# EAGLE library part DPDT (library switches)
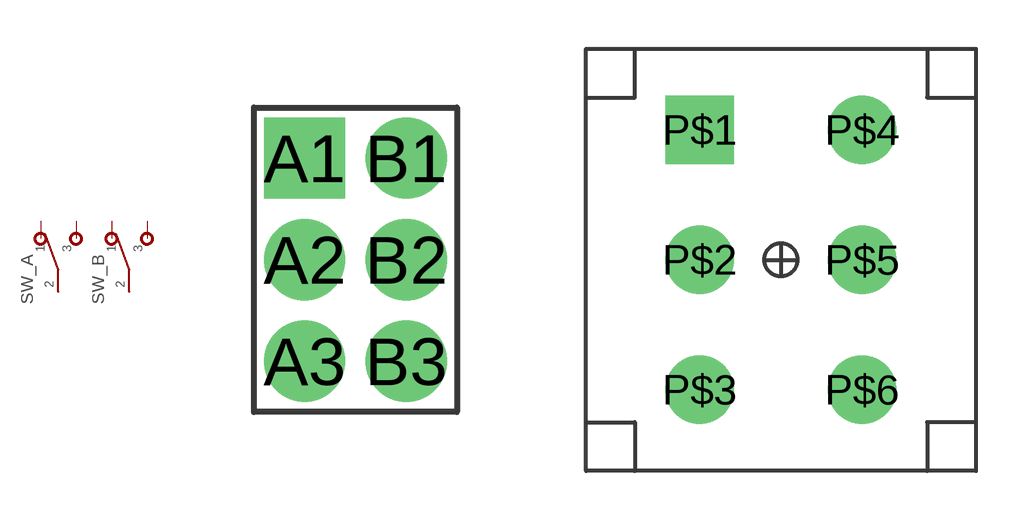
[diagram p8: symbol with the pads of DPDT; footprints DPDT, SF12011F-0202-20R-M-011]

Designator prefix SW; gates _A=SPDT _B=SPDT

## DPDT  [DPDT]
A1  _A:1  pas
A2  _A:2  pas
A3  _A:3  pas
B1  _B:1  pas
B2  _B:2  pas
B3  _B:3  pas

## DPDTDPDT_MOM  [SF12011F-0202-20R-M-011]
P$1  _A:1  pas
P$2  _A:2  pas
P$3  _A:3  pas
P$4  _B:1  pas
P$5  _B:2  pas
P$6  _B:3  pas

## DPDTDPDT_PIN  [10TC415]
1  _A:1  pas
2  _A:2  pas
3  _A:3  pas
4  _B:1  pas
5  _B:2  pas
6  _B:3  pas

## DPDTOSMIN  [DPDT_OSMINI]
Pads as for 10TC415

## DPDTPADS  [DPDT_PADS]
Pads as for SF12011F-0202-20R-M-011

## DPDTPCB  [DPDT2_PCB]
Pads as for DPDT

## DPDTTAIWAY1MD  [TAIWAY1MD]
Pads as for DPDT

## Footprint DPDT (pad centres in mm)
drill 1.2 pad 2.032 square: A1 -1.27,2.54
drill 1.2 pad 2.032: A2 -1.27,0; A3 -1.27,-2.54; B1 1.27,2.54; B2 1.27,0; B3 1.27,-2.54

## Footprint SF12011F-0202-20R-M-011 (pad centres in mm)
drill 1.4 square: P$1 -2.5,4
drill 1.4: P$2 -2.5,0; P$3 -2.5,-4; P$4 2.5,4; P$5 2.5,0; P$6 2.5,-4

## Footprint 10TC415 (pad centres in mm)
drill 1 pad 1.778 square: 1 -2.54,2.54
drill 1 pad 1.778: 2 -2.54,0; 3 -2.54,-2.54; 4 2.54,2.54; 5 2.54,0; 6 2.54,-2.54

## Footprint DPDT_OSMINI (pad centres in mm)
drill 1 square: 1 -2,-1.25
drill 1: 2 0,-1.25; 3 2,-1.25; 4 -2,1.25; 5 0,1.25; 6 2,1.25
drill 1.5: P$1 4.1,0; P$2 -4.1,0

## Footprint DPDT_PADS (pad centres in mm)
drill 1.2 pad 2.184 square: P$1 -6.35,0
drill 1.2 pad 2.184: P$2 -3.81,0; P$3 -1.27,0; P$4 1.27,0; P$5 3.81,0; P$6 6.35,0

## Footprint DPDT2_PCB (pad centres in mm)
drill 2.4 square: A1 -2.413,4.834
drill 2.4: A2 -2.413,0.004; A3 -2.413,-4.826; B1 2.417,4.834; B2 2.417,0.004; B3 2.417,-4.826

## Footprint TAIWAY1MD (pad centres in mm)
drill 1.6 square: A1 -2.413,4.834
drill 1.6: A2 -2.413,0.004; A3 -2.413,-4.826; B1 2.417,4.834; B2 2.417,0.004; B3 2.417,-4.826